# Altium footprint library PCB1.PcbLib: 3 footprints
Each footprint in its own frame and in the unit in brackets; x right, y up, seen from the top. Pads: shape width x height; smd on the part's side, far side on the other; paste and mask are expansions set on the pad; w line width, h text height; cw(c..) or ccw(c..) is an arc to the next point about the centre after c.
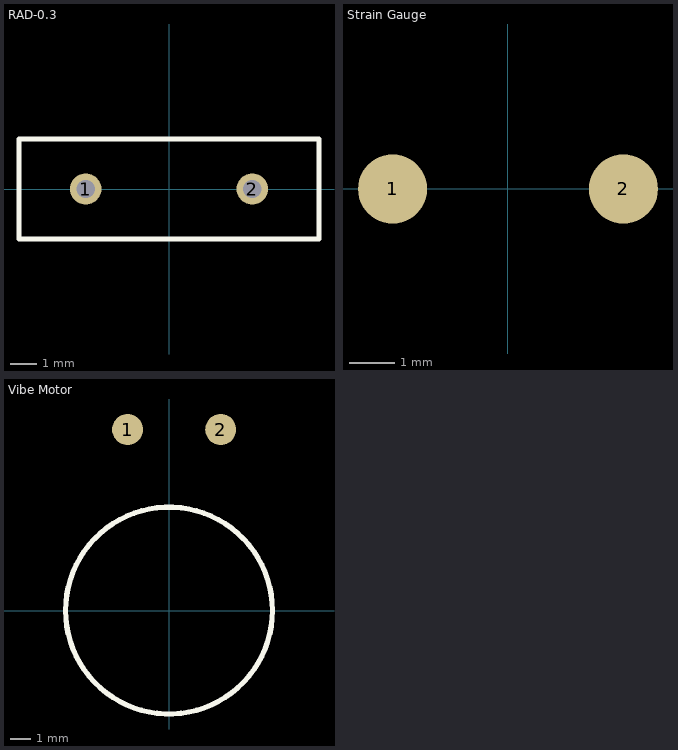
[diagram p0: the footprints below, top view; thin cyan lines are the x and y axes]

## RAD-0.3 [mm]
pads (2):
  round 1.2 hole 0.7: 1(-3.175,0) 2(3.175,0)
Top Overlay:
  lines w0.2: -5.715,-1.905 5.715,-1.905 5.715,1.905 -5.715,1.905 -5.715,-1.905

## Strain Gauge [mil]
pads (2):
  round 60 smd: 1(-100,0) 2(100,0)

## Vibe Motor [mil]
pads (2):
  round 60 smd: 1(-80,350) 2(100,350)
Top Overlay:
  circle w10: c0,0 r200